# Altium schematic symbol library ECS-196-S-23A-TR.SchLib: 1 symbol
Pins are listed as number, name and electrical type; pins without a type are passive.

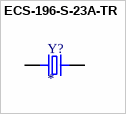
[diagram p0: symbol ECS-196-S-23A-TR]

## ECS-196-S-23A-TR
designator Y?
Crystal 2-SMD, No Lead; MP: ECS-196-S-23A-TR; Package: None; Price: None; Value: *; Availability: Unavailable
footprint XTAL_ECS-196-S-23A-TR
pins: 1 IN/OUT, 2 OUT/IN